# EAGLE library part NE556D (library ST Microelectronics)
General-purpose dual bipolar timers
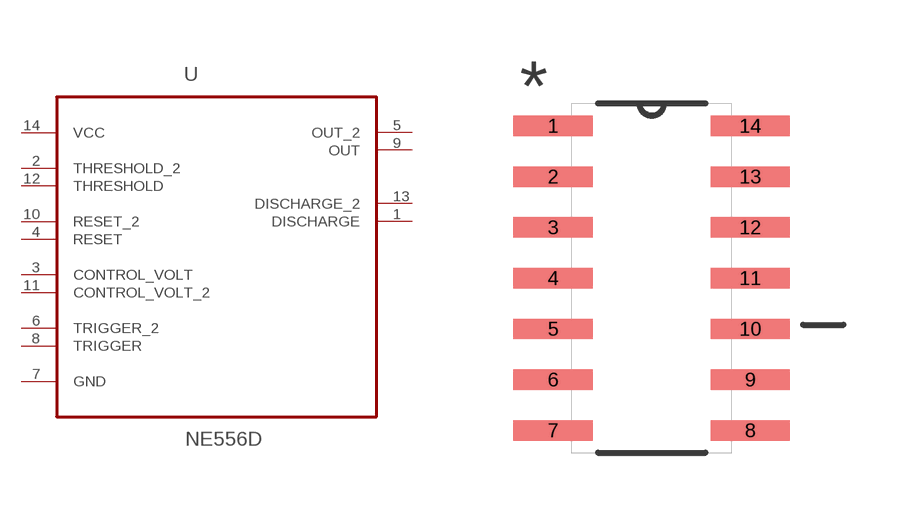
[diagram p286: symbol with the pads of SOIC127P600X175-14N; footprint SOIC127P600X175-14N]

Designator prefix U

## NE556D (MPN: NE556D; OC_FARNELL: 1737169; OC_NEWARK: 89K1487; PACKAGE: SOIC-14; SUPPLIER: STMICROELECTRONICS)  [SOIC127P600X175-14N]
1  DISCHARGE  out
2  THRESHOLD_2  in
3  CONTROL_VOLT  in
4  RESET  in
5  OUT_2  out
6  TRIGGER_2  in
7  GND  pas
8  TRIGGER  in
9  OUT  out
10  RESET_2  in
11  CONTROL_VOLT_2  in
12  THRESHOLD  in
13  DISCHARGE_2  out
14  VCC  pwr

## Footprint SOIC127P600X175-14N (pad centres in mm)
smd 1.981 x 0.508: 1 -2.464,3.81; 2 -2.464,2.54; 3 -2.464,1.27; 4 -2.464,0; 5 -2.464,-1.27; 6 -2.464,-2.54; 7 -2.464,-3.81; 8 2.464,-3.81; 9 2.464,-2.54; 10 2.464,-1.27; 11 2.464,0; 12 2.464,1.27; 13 2.464,2.54; 14 2.464,3.81